# Altium schematic symbol library SCH - MCU - STM32 - ST MICROELECTRONICS STM32L152V(8-B)HX UFBGA100.SchLib: 1 symbol
Pins are listed as number, name and electrical type; pins without a type are passive.

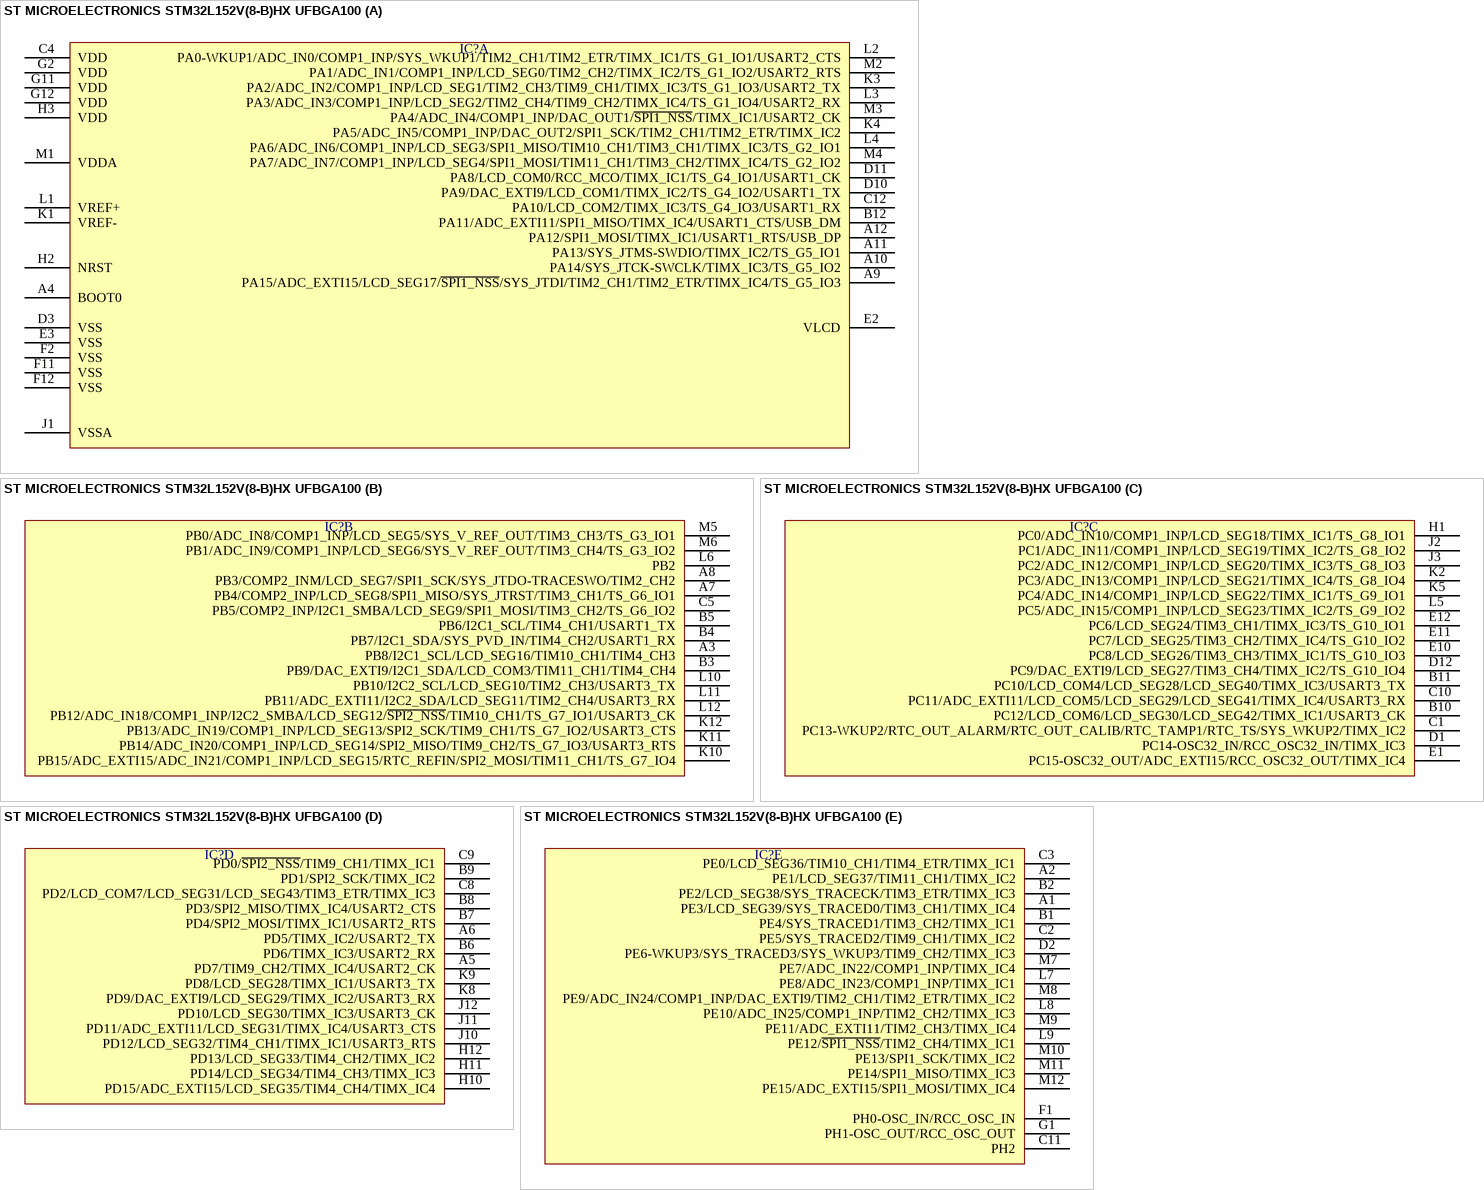
[diagram p0: symbol ST MICROELECTRONICS STM32L152V(8-B)HX UFBGA100]

## ST MICROELECTRONICS STM32L152V(8-B)HX UFBGA100
designator IC?  (value not drawn)
part A pins: A4 BOOT0, A9 PA15/ADC_EXTI15/LCD_SEG17/~{SPI1_NSS}/SYS_JTDI/TIM2_CH1/TIM2_ETR/TIMX_IC4/TS_G5_IO3, A10 PA14/SYS_JTCK-SWCLK/TIMX_IC3/TS_G5_IO2, A11 PA13/SYS_JTMS-SWDIO/TIMX_IC2/TS_G5_IO1, A12 PA12/SPI1_MOSI/TIMX_IC1/USART1_RTS/USB_DP, B12 PA11/ADC_EXTI11/SPI1_MISO/TIMX_IC4/USART1_CTS/USB_DM, C4 VDD, C12 PA10/LCD_COM2/TIMX_IC3/TS_G4_IO3/USART1_RX, D3 VSS, D10 PA9/DAC_EXTI9/LCD_COM1/TIMX_IC2/TS_G4_IO2/USART1_TX, D11 PA8/LCD_COM0/RCC_MCO/TIMX_IC1/TS_G4_IO1/USART1_CK, E2 VLCD, E3 VSS, F2 VSS, F11 VSS, F12 VSS, G2 VDD, G11 VDD, G12 VDD, H2 NRST, H3 VDD, J1 VSSA, K1 VREF-, K3 PA2/ADC_IN2/COMP1_INP/LCD_SEG1/TIM2_CH3/TIM9_CH1/TIMX_IC3/TS_G1_IO3/USART2_TX, K4 PA5/ADC_IN5/COMP1_INP/DAC_OUT2/SPI1_SCK/TIM2_CH1/TIM2_ETR/TIMX_IC2, L1 VREF+, L2 PA0-WKUP1/ADC_IN0/COMP1_INP/SYS_WKUP1/TIM2_CH1/TIM2_ETR/TIMX_IC1/TS_G1_IO1/USART2_CTS, L3 PA3/ADC_IN3/COMP1_INP/LCD_SEG2/TIM2_CH4/TIM9_CH2/TIMX_IC4/TS_G1_IO4/USART2_RX, L4 PA6/ADC_IN6/COMP1_INP/LCD_SEG3/SPI1_MISO/TIM10_CH1/TIM3_CH1/TIMX_IC3/TS_G2_IO1, M1 VDDA, M2 PA1/ADC_IN1/COMP1_INP/LCD_SEG0/TIM2_CH2/TIMX_IC2/TS_G1_IO2/USART2_RTS, M3 PA4/ADC_IN4/COMP1_INP/DAC_OUT1/~{SPI1_NSS}/TIMX_IC1/USART2_CK, M4 PA7/ADC_IN7/COMP1_INP/LCD_SEG4/SPI1_MOSI/TIM11_CH1/TIM3_CH2/TIMX_IC4/TS_G2_IO2
part B pins: A3 PB8/I2C1_SCL/LCD_SEG16/TIM10_CH1/TIM4_CH3, A7 PB4/COMP2_INP/LCD_SEG8/SPI1_MISO/SYS_JTRST/TIM3_CH1/TS_G6_IO1, A8 PB3/COMP2_INM/LCD_SEG7/SPI1_SCK/SYS_JTDO-TRACESWO/TIM2_CH2, B3 PB9/DAC_EXTI9/I2C1_SDA/LCD_COM3/TIM11_CH1/TIM4_CH4, B4 PB7/I2C1_SDA/SYS_PVD_IN/TIM4_CH2/USART1_RX, B5 PB6/I2C1_SCL/TIM4_CH1/USART1_TX, C5 PB5/COMP2_INP/I2C1_SMBA/LCD_SEG9/SPI1_MOSI/TIM3_CH2/TS_G6_IO2, K10 PB15/ADC_EXTI15/ADC_IN21/COMP1_INP/LCD_SEG15/RTC_REFIN/SPI2_MOSI/TIM11_CH1/TS_G7_IO4, K11 PB14/ADC_IN20/COMP1_INP/LCD_SEG14/SPI2_MISO/TIM9_CH2/TS_G7_IO3/USART3_RTS, K12 PB13/ADC_IN19/COMP1_INP/LCD_SEG13/SPI2_SCK/TIM9_CH1/TS_G7_IO2/USART3_CTS, L6 PB2, L10 PB10/I2C2_SCL/LCD_SEG10/TIM2_CH3/USART3_TX, L11 PB11/ADC_EXTI11/I2C2_SDA/LCD_SEG11/TIM2_CH4/USART3_RX, L12 PB12/ADC_IN18/COMP1_INP/I2C2_SMBA/LCD_SEG12/~{SPI2_NSS}/TIM10_CH1/TS_G7_IO1/USART3_CK, M5 PB0/ADC_IN8/COMP1_INP/LCD_SEG5/SYS_V_REF_OUT/TIM3_CH3/TS_G3_IO1, M6 PB1/ADC_IN9/COMP1_INP/LCD_SEG6/SYS_V_REF_OUT/TIM3_CH4/TS_G3_IO2
part C pins: B10 PC12/LCD_COM6/LCD_SEG30/LCD_SEG42/TIMX_IC1/USART3_CK, B11 PC10/LCD_COM4/LCD_SEG28/LCD_SEG40/TIMX_IC3/USART3_TX, C1 PC13-WKUP2/RTC_OUT_ALARM/RTC_OUT_CALIB/RTC_TAMP1/RTC_TS/SYS_WKUP2/TIMX_IC2, C10 PC11/ADC_EXTI11/LCD_COM5/LCD_SEG29/LCD_SEG41/TIMX_IC4/USART3_RX, D1 PC14-OSC32_IN/RCC_OSC32_IN/TIMX_IC3, D12 PC9/DAC_EXTI9/LCD_SEG27/TIM3_CH4/TIMX_IC2/TS_G10_IO4, E1 PC15-OSC32_OUT/ADC_EXTI15/RCC_OSC32_OUT/TIMX_IC4, E10 PC8/LCD_SEG26/TIM3_CH3/TIMX_IC1/TS_G10_IO3, E11 PC7/LCD_SEG25/TIM3_CH2/TIMX_IC4/TS_G10_IO2, E12 PC6/LCD_SEG24/TIM3_CH1/TIMX_IC3/TS_G10_IO1, H1 PC0/ADC_IN10/COMP1_INP/LCD_SEG18/TIMX_IC1/TS_G8_IO1, J2 PC1/ADC_IN11/COMP1_INP/LCD_SEG19/TIMX_IC2/TS_G8_IO2, J3 PC2/ADC_IN12/COMP1_INP/LCD_SEG20/TIMX_IC3/TS_G8_IO3, K2 PC3/ADC_IN13/COMP1_INP/LCD_SEG21/TIMX_IC4/TS_G8_IO4, K5 PC4/ADC_IN14/COMP1_INP/LCD_SEG22/TIMX_IC1/TS_G9_IO1, L5 PC5/ADC_IN15/COMP1_INP/LCD_SEG23/TIMX_IC2/TS_G9_IO2
part D pins: A5 PD7/TIM9_CH2/TIMX_IC4/USART2_CK, A6 PD5/TIMX_IC2/USART2_TX, B6 PD6/TIMX_IC3/USART2_RX, B7 PD4/SPI2_MOSI/TIMX_IC1/USART2_RTS, B8 PD3/SPI2_MISO/TIMX_IC4/USART2_CTS, B9 PD1/SPI2_SCK/TIMX_IC2, C8 PD2/LCD_COM7/LCD_SEG31/LCD_SEG43/TIM3_ETR/TIMX_IC3, C9 PD0/~{SPI2_NSS}/TIM9_CH1/TIMX_IC1, H10 PD15/ADC_EXTI15/LCD_SEG35/TIM4_CH4/TIMX_IC4, H11 PD14/LCD_SEG34/TIM4_CH3/TIMX_IC3, H12 PD13/LCD_SEG33/TIM4_CH2/TIMX_IC2, J10 PD12/LCD_SEG32/TIM4_CH1/TIMX_IC1/USART3_RTS, J11 PD11/ADC_EXTI11/LCD_SEG31/TIMX_IC4/USART3_CTS, J12 PD10/LCD_SEG30/TIMX_IC3/USART3_CK, K8 PD9/DAC_EXTI9/LCD_SEG29/TIMX_IC2/USART3_RX, K9 PD8/LCD_SEG28/TIMX_IC1/USART3_TX
part E pins: A1 PE3/LCD_SEG39/SYS_TRACED0/TIM3_CH1/TIMX_IC4, A2 PE1/LCD_SEG37/TIM11_CH1/TIMX_IC2, B1 PE4/SYS_TRACED1/TIM3_CH2/TIMX_IC1, B2 PE2/LCD_SEG38/SYS_TRACECK/TIM3_ETR/TIMX_IC3, C2 PE5/SYS_TRACED2/TIM9_CH1/TIMX_IC2, C3 PE0/LCD_SEG36/TIM10_CH1/TIM4_ETR/TIMX_IC1, C11 PH2, D2 PE6-WKUP3/SYS_TRACED3/SYS_WKUP3/TIM9_CH2/TIMX_IC3, F1 PH0-OSC_IN/RCC_OSC_IN, G1 PH1-OSC_OUT/RCC_OSC_OUT, L7 PE8/ADC_IN23/COMP1_INP/TIMX_IC1, L8 PE10/ADC_IN25/COMP1_INP/TIM2_CH2/TIMX_IC3, L9 PE12/~{SPI1_NSS}/TIM2_CH4/TIMX_IC1, M7 PE7/ADC_IN22/COMP1_INP/TIMX_IC4, M8 PE9/ADC_IN24/COMP1_INP/DAC_EXTI9/TIM2_CH1/TIM2_ETR/TIMX_IC2, M9 PE11/ADC_EXTI11/TIM2_CH3/TIMX_IC4, M10 PE13/SPI1_SCK/TIMX_IC2, M11 PE14/SPI1_MISO/TIMX_IC3, M12 PE15/ADC_EXTI15/SPI1_MOSI/TIMX_IC4